# Altium integrated library Transformer.IntLib: 3 symbols
Pins are listed as number, name and electrical type; pins without a type are passive.

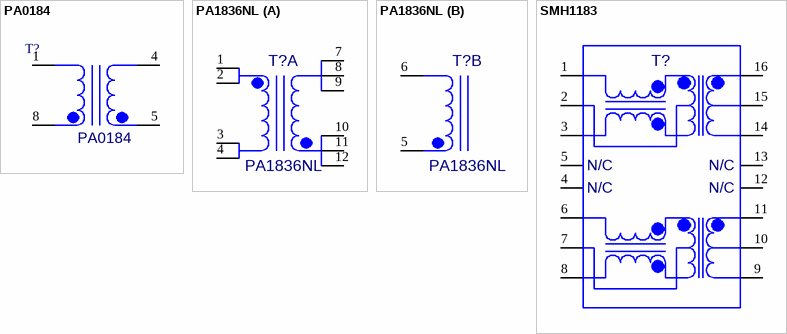
[diagram p0: symbols PA0184 to SMH1183]

## PA0184
designator T?, comment value PA0184  (hidden comment: AWT25-500033)
Transformer, PA0184; ECAD_Revision: 2; Librarian: US; HelpURL: K:\ACCELEDA\PDF Spec Files\TRANSFORMER\PA0184.pdf; PartNumber: AWT25-500033
footprint PA0184 (Pulse Transformer PA0184)
pins: 1, 4, 5, 8

## PA1836NL
designator T?, comment value PA1836NL  (hidden comment: AWT25-500034)
Transformer, PA1836NL; ECAD_Revision: 2; Librarian: US; PartNumber: AWT25-500034; HelpURL: K:\ACCELEDA\PDF Spec Files\TRANSFORMER\PA1836NL.pdf; Item: *
footprint PA1836NL
part A pins: 1, 2, 3, 4, 7, 8, 9, 10, 11, 12
part B pins: 5, 6

## SMH1183
designator T?, comment 60218-0010  (value not drawn)
IC, H1183; Value: {Value}; ECAD_Revision: 1; Librarian: US; PartNumber: 60218-0010; Power Rating: *; HelpURL: K:\ACCELEDA\PDF Spec Files\TRANSFORMER\h325.pdf; Item: *
footprint SMH1183
pins: 1, 2, 3, 4, 5, 6, 7, 8, 9, 10, 11, 12, 13, 14, 15, 16
text: N/C